# EAGLE library part 2X3-100MIL (library 000-ece411)
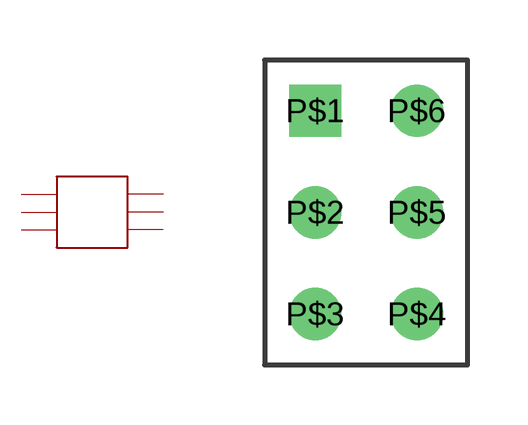
[diagram p0: symbol with the pads of 3X2-100MIL; footprint 3X2-100MIL]

Designator prefix -

## 2X3-100MIL  [3X2-100MIL]
P$1  P$1
P$2  P$2
P$3  P$3
P$4  P$4
P$5  P$5
P$6  P$6

## Footprint 3X2-100MIL (pad centres in mm)
drill 0.8 square: P$1 0,0
drill 0.8 round: P$2 0,-2.54; P$3 0,-5.08; P$4 2.54,-5.08; P$5 2.54,-2.54; P$6 2.54,0